# Altium integrated library PE68386NLT.IntLib: 2 symbols
Pins are listed as number, name and electrical type; pins without a type are passive.

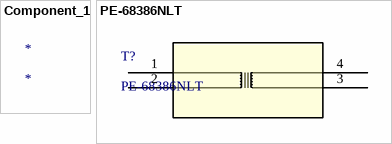
[diagram p0: symbols Component_1 to PE-68386NLT]

## Component_1
designator *

## PE-68386NLT
designator T?
No Description Available; Vendor: Pulse Electronics Corporation; Built_By: EMA_Cory; SourceLibrary: Pulse_Electronics_2019-12-18; Type: DEV; Manufacturer_Part_Number: PE-68386NLT; Copyright: Copyright (C) 2018 Accelerated Designs. All rights reserved; RefDes: RefDes
footprint PE-68386NL_PUL
pins: 1, 2, 3, 4